# Altium footprint library RF-UNIT-BIG.PcbLib: 67 footprints (part 1 of 5)
Each footprint in its own frame and in the unit in brackets; x right, y up, seen from the top. Pads: shape width x height; smd on the part's side, far side on the other; paste and mask are expansions set on the pad; w line width, h text height; cw(c..) or ccw(c..) is an arc to the next point about the centre after c.
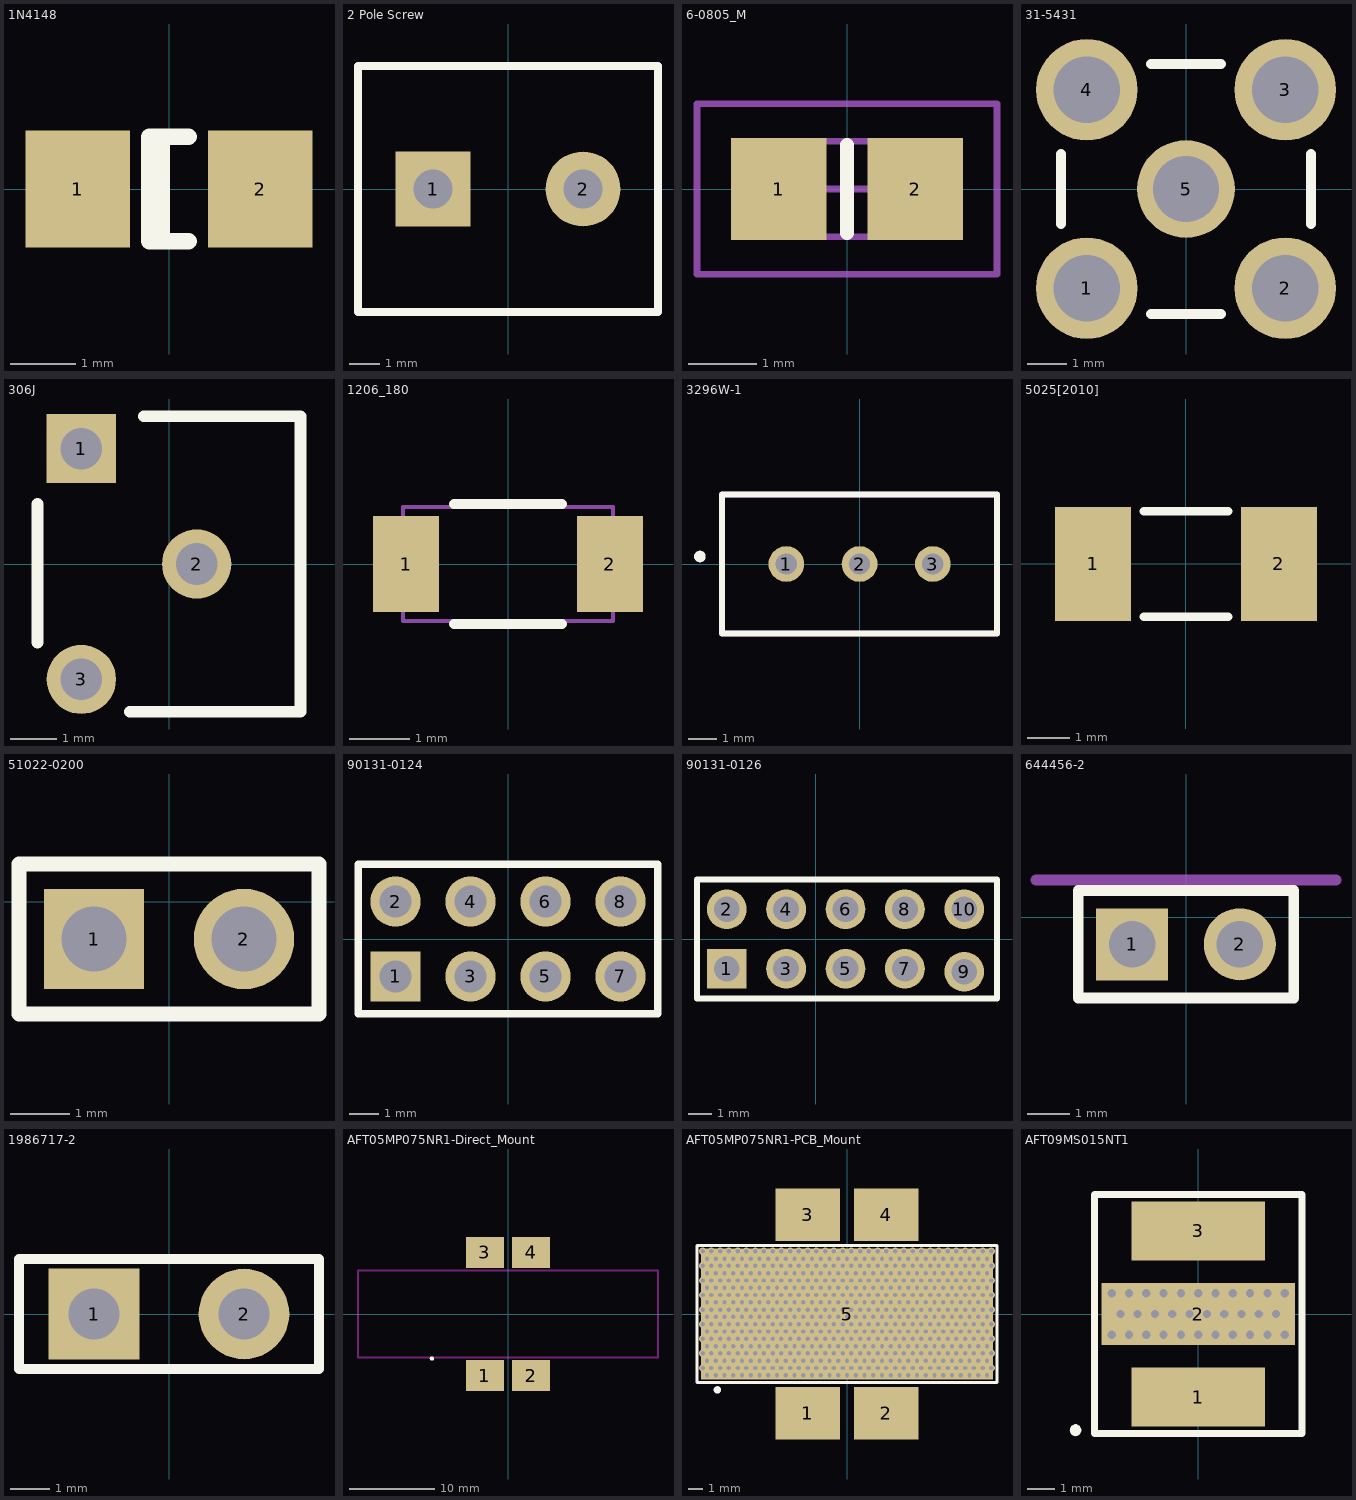
[diagram p0: the footprints below, top view; thin cyan lines are the x and y axes]

## 1N4148 [mm]
pads (2):
  rect 1.6x1.8 smd: 1(-1.4,0) 2(1.4,0)
Top Overlay:
  lines w0.254: -0.111,-0.799 -0.111,0.799 ; 0.299,-0.799 -0.299,-0.799 -0.3,0.799 0.299,0.799

## 2 Pole Screw [mm]
pads (2):
  rect 2.5x2.5 hole 1.3: 1(-2.5,0)
  round 2.5 hole 1.3: 2(2.5,0)
Top Overlay:
  lines w0.254: -5,-4.1 -5,4.1 5,4.1 5,-4.1 -5,-4.1

## 6-0805_M [mm] "Chip Resistor, Body 2.0x1.2mm, IPC Low Density"
height 0.7
pads (2):
  rect 1.4x1.5 smd: 1(-1,0) 2(1,0)
Top Overlay:
  lines w0.2: 0,-0.65 0,0.65
Mechanical 13:
  lines w0.1: -1.075,-0.7 1.075,-0.7 1.075,0.7 -1.075,0.7 -1.075,-0.7
Mechanical 15:
  lines w0.1: -0.5,0 0.5,0 ; 0,-0.5 0,0.5 ; -2.2,-1.25 2.2,-1.25 2.2,1.25 -2.2,1.25 -2.2,-1.25
3D body: height 0.7, standoff 0, extent -1.075,-0.7 1.075,0.7

## 31-5431 [mm]
pads (5):
  round 2.6 hole 1.7: 1(-2.54,-2.54) 2(2.54,-2.54) 3(2.54,2.54) 4(-2.54,2.54)
  round 2.5 hole 1.7: 5(0,0)
Top Overlay:
  lines w0.254: -3.199,-0.9 -3.199,0.9 ; -0.9,-3.199 0.9,-3.199 ; -0.9,3.199 0.9,3.199 ; 3.199,-0.9 3.199,0.9

## 306J [mm]
pads (3):
  rect 1.5x1.5 hole 0.9: 1(-1.9,2.5)
  round 1.5 hole 0.9: 2(0.6,0) 3(-1.9,-2.5)
Top Overlay:
  lines w0.254: -2.85,-1.7 -2.85,0 -2.85,1.3 ; -0.85,-3.2 2.85,-3.2 2.85,3.2 -0.55,3.2

## 1206_180 [mm]
pads (2):
  rect 1.1x1.6 smd: 1(-1.7,0) 2(1.7,0)
Top Overlay:
  lines w0.17: -0.9,-1 0.9,-1 ; -0.9,1 0.9,1
Mechanical 5:
  lines w0.07: -1.75,-0.95 -1.75,0.95 1.75,0.95 1.75,-0.95 -1.75,-0.95
  text ".Designator" at 1.185,0.635 h0.76
3D body: height 1.9, standoff 0, extent 1.301,-0.949 1.749,0.949
3D body: height 1.9, standoff 0, extent -1.299,-0.949 1.299,0.949
3D body: height 1.9, standoff 0, extent -1.749,-0.949 -1.301,0.949

## 3296W-1 [mm]
pads (3):
  round 1.24 hole 0.74: 1(-2.54,0) 2(0,0) 3(2.54,0)
Top Overlay:
  circle w0.2: c-5.536,0.26 r0.1
  lines w0.2: -4.765,-2.41 -4.765,2.41 4.765,2.41 4.765,-2.41 -4.765,-2.41
Mechanical 13:
  lines w0.2: -4.765,-2.41 -4.765,2.41 4.765,2.41 4.765,-2.41 -4.765,-2.41
3D body "3296W-1-103LF.stp": height 11.55, standoff -3.01, extent -4.775,-2.476 4.775,2.35

## 5025[2010] [mm] "Chip Resistor; Body 5.0 x 2.5 mm (LxW typ)"
height 0.71
pads (2):
  rect 1.8x2.7 smd: 1(-2.2,0) 2(2.2,0)
Top Overlay:
  lines w0.2: -1,-1.25 1,-1.25 ; -1,1.25 1,1.25

## 51022-0200 [mm]
pads (2):
  rect 1.7x1.7 hole 1.1: 1(-1.27,-0.635)
  round 1.7 hole 1.1: 2(1.27,-0.635)
Top Overlay:
  lines w0.254: -2.54,-1.905 -2.54,0.635 2.54,0.635 2.54,-1.905 -2.54,-1.905

## 90131-0124 [mm]
pads (8):
  rect 1.7x1.7 hole 1.1: 1(-3.81,-1.27)
  round 1.7 hole 1.1: 2(-3.81,1.27) 3(-1.27,-1.27) 4(-1.27,1.27) 5(1.27,-1.27) 6(1.27,1.27) 7(3.81,-1.27) 8(3.81,1.27)
Top Overlay:
  lines w0.254: -5.08,-2.54 -5.08,2.54 5.08,2.54 5.08,-2.54 -5.08,-2.54

## 90131-0126 [mm]
pads (10):
  rect 1.7x1.7 hole 1.1: 1(-3.81,-1.27)
  round 1.7 hole 1.1: 2(-3.81,1.27) 3(-1.27,-1.27) 4(-1.27,1.27) 5(1.27,-1.27) 6(1.27,1.27) 7(3.81,-1.27) 8(3.81,1.27) 9(6.35,-1.397) 10(6.35,1.27)
Top Overlay:
  lines w0.254: -5.08,-2.54 7.747,-2.54 7.747,2.54 -5.08,2.54 -5.08,-2.54

## 644456-2 [mm]
pads (2):
  rect 1.7x1.7 hole 1.1: 1(-1.27,-0.635)
  round 1.7 hole 1.1: 2(1.27,-0.635)
Top Overlay:
  lines w0.254: -2.54,-1.905 -2.54,0.635 2.54,0.635 2.54,-1.905 -2.54,-1.905
Mechanical 1:
  lines w0.254: -3.54,0.885 3.54,0.885
  text "BOARD EDGE" at -2.182,1.001 h0.42

## 1986717-2 [mm]
pads (2):
  rect 2.3x2.3 hole 1.3: 1(-1.905,0)
  round 2.3 hole 1.3: 2(1.905,0)
Top Overlay:
  lines w0.254: -3.81,-1.4 3.81,-1.4 3.81,1.4 -3.81,1.4 -3.81,-1.4

## AFT05MP075NR1-Direct_Mount [mm]
pads (4):
  rect 4.4x3.6 smd: 1(-2.69,-7.2) 2(2.69,-7.2) 3(-2.69,7.2) 4(2.69,7.2)
Top Overlay:
  circle w0.254: c-8.89,-5.207 r0.127
Keep-Out Layer:
  lines w0.2: -17.526,-5.08 17.526,-5.08 17.526,5.08 -17.526,5.08 -17.526,-5.08

## AFT05MP075NR1-PCB_Mount [mm]
pads (5):
  rect 4.4x3.6 smd: 1(-2.69,-6.8) 2(2.69,-6.8) 3(-2.69,6.8) 4(2.69,6.8)
  rect 20x9 smd: 5(0,0)
via 5.1,4.3 diameter 0.5 hole 0.3
via 5.7,4.3 diameter 0.5 hole 0.3
via 6.3,4.3 diameter 0.5 hole 0.3
via 6.9,4.3 diameter 0.5 hole 0.3
via 7.5,4.3 diameter 0.5 hole 0.3
via 8.1,4.3 diameter 0.5 hole 0.3
via 9.9,4.3 diameter 0.5 hole 0.3
via 9.3,4.3 diameter 0.5 hole 0.3
via 8.7,4.3 diameter 0.5 hole 0.3
via -2.1,4.3 diameter 0.5 hole 0.3
via -1.5,4.3 diameter 0.5 hole 0.3
via -0.9,4.3 diameter 0.5 hole 0.3
via -0.3,4.3 diameter 0.5 hole 0.3
via 0.3,4.3 diameter 0.5 hole 0.3
via 0.9,4.3 diameter 0.5 hole 0.3
via 4.5,4.3 diameter 0.5 hole 0.3
via 3.9,4.3 diameter 0.5 hole 0.3
via 3.3,4.3 diameter 0.5 hole 0.3
via 2.7,4.3 diameter 0.5 hole 0.3
via 2.1,4.3 diameter 0.5 hole 0.3
via 1.5,4.3 diameter 0.5 hole 0.3
via -5.7,4.3 diameter 0.5 hole 0.3
via -5.1,4.3 diameter 0.5 hole 0.3
via -4.5,4.3 diameter 0.5 hole 0.3
via -3.9,4.3 diameter 0.5 hole 0.3
via -3.3,4.3 diameter 0.5 hole 0.3
via -2.7,4.3 diameter 0.5 hole 0.3
via -6.3,4.3 diameter 0.5 hole 0.3
via -6.9,4.3 diameter 0.5 hole 0.3
via -7.5,4.3 diameter 0.5 hole 0.3
via -8.1,4.3 diameter 0.5 hole 0.3
via -8.7,4.3 diameter 0.5 hole 0.3
via -9.3,4.3 diameter 0.5 hole 0.3
via -9.9,4.3 diameter 0.5 hole 0.3
via 5.4,3.8 diameter 0.5 hole 0.3
via 6,3.8 diameter 0.5 hole 0.3
via 6.6,3.8 diameter 0.5 hole 0.3
via 7.2,3.8 diameter 0.5 hole 0.3
via 7.8,3.8 diameter 0.5 hole 0.3
via 8.4,3.8 diameter 0.5 hole 0.3
via 9.6,3.8 diameter 0.5 hole 0.3
via 9,3.8 diameter 0.5 hole 0.3
via -1.8,3.8 diameter 0.5 hole 0.3
via -1.2,3.8 diameter 0.5 hole 0.3
via -0.6,3.8 diameter 0.5 hole 0.3
via 0,3.8 diameter 0.5 hole 0.3
via 0.6,3.8 diameter 0.5 hole 0.3
via 1.2,3.8 diameter 0.5 hole 0.3
via 4.8,3.8 diameter 0.5 hole 0.3
via 4.2,3.8 diameter 0.5 hole 0.3
via 3.6,3.8 diameter 0.5 hole 0.3
via 3,3.8 diameter 0.5 hole 0.3
via 2.4,3.8 diameter 0.5 hole 0.3
via 1.8,3.8 diameter 0.5 hole 0.3
via -5.4,3.8 diameter 0.5 hole 0.3
via -4.8,3.8 diameter 0.5 hole 0.3
via -4.2,3.8 diameter 0.5 hole 0.3
via -3.6,3.8 diameter 0.5 hole 0.3
via -3,3.8 diameter 0.5 hole 0.3
via -2.4,3.8 diameter 0.5 hole 0.3
via -6,3.8 diameter 0.5 hole 0.3
via -6.6,3.8 diameter 0.5 hole 0.3
via -7.2,3.8 diameter 0.5 hole 0.3
via -7.8,3.8 diameter 0.5 hole 0.3
via -8.4,3.8 diameter 0.5 hole 0.3
via -9,3.8 diameter 0.5 hole 0.3
via -9.6,3.8 diameter 0.5 hole 0.3
via 5.1,3.3 diameter 0.5 hole 0.3
via 5.7,3.3 diameter 0.5 hole 0.3
via 6.3,3.3 diameter 0.5 hole 0.3
via 6.9,3.3 diameter 0.5 hole 0.3
via 7.5,3.3 diameter 0.5 hole 0.3
via 8.1,3.3 diameter 0.5 hole 0.3
via 9.9,3.3 diameter 0.5 hole 0.3
via 9.3,3.3 diameter 0.5 hole 0.3
via 8.7,3.3 diameter 0.5 hole 0.3
via -2.1,3.3 diameter 0.5 hole 0.3
via -1.5,3.3 diameter 0.5 hole 0.3
via -0.9,3.3 diameter 0.5 hole 0.3
via -0.3,3.3 diameter 0.5 hole 0.3
via 0.3,3.3 diameter 0.5 hole 0.3
via 0.9,3.3 diameter 0.5 hole 0.3
via 4.5,3.3 diameter 0.5 hole 0.3
via 3.9,3.3 diameter 0.5 hole 0.3
via 3.3,3.3 diameter 0.5 hole 0.3
via 2.7,3.3 diameter 0.5 hole 0.3
via 2.1,3.3 diameter 0.5 hole 0.3
via 1.5,3.3 diameter 0.5 hole 0.3
via -5.7,3.3 diameter 0.5 hole 0.3
via -5.1,3.3 diameter 0.5 hole 0.3
via -4.5,3.3 diameter 0.5 hole 0.3
via -3.9,3.3 diameter 0.5 hole 0.3
via -3.3,3.3 diameter 0.5 hole 0.3
via -2.7,3.3 diameter 0.5 hole 0.3
via -6.3,3.3 diameter 0.5 hole 0.3
via -6.9,3.3 diameter 0.5 hole 0.3
via -7.5,3.3 diameter 0.5 hole 0.3
via -8.1,3.3 diameter 0.5 hole 0.3
via -8.7,3.3 diameter 0.5 hole 0.3
via -9.3,3.3 diameter 0.5 hole 0.3
via -9.9,3.3 diameter 0.5 hole 0.3
via 5.4,2.8 diameter 0.5 hole 0.3
via 6,2.8 diameter 0.5 hole 0.3
via 6.6,2.8 diameter 0.5 hole 0.3
via 7.2,2.8 diameter 0.5 hole 0.3
via 7.8,2.8 diameter 0.5 hole 0.3
via 8.4,2.8 diameter 0.5 hole 0.3
via 9.6,2.8 diameter 0.5 hole 0.3
via 9,2.8 diameter 0.5 hole 0.3
via -1.8,2.8 diameter 0.5 hole 0.3
via -1.2,2.8 diameter 0.5 hole 0.3
via -0.6,2.8 diameter 0.5 hole 0.3
via 0,2.8 diameter 0.5 hole 0.3
via 0.6,2.8 diameter 0.5 hole 0.3
via 1.2,2.8 diameter 0.5 hole 0.3
via 4.8,2.8 diameter 0.5 hole 0.3
via 4.2,2.8 diameter 0.5 hole 0.3
via 3.6,2.8 diameter 0.5 hole 0.3
via 3,2.8 diameter 0.5 hole 0.3
via 2.4,2.8 diameter 0.5 hole 0.3
via 1.8,2.8 diameter 0.5 hole 0.3
via -5.4,2.8 diameter 0.5 hole 0.3
via -4.8,2.8 diameter 0.5 hole 0.3
via -4.2,2.8 diameter 0.5 hole 0.3
via -3.6,2.8 diameter 0.5 hole 0.3
via -3,2.8 diameter 0.5 hole 0.3
via -2.4,2.8 diameter 0.5 hole 0.3
via -6,2.8 diameter 0.5 hole 0.3
via -6.6,2.8 diameter 0.5 hole 0.3
via -7.2,2.8 diameter 0.5 hole 0.3
via -7.8,2.8 diameter 0.5 hole 0.3
via -8.4,2.8 diameter 0.5 hole 0.3
via -9,2.8 diameter 0.5 hole 0.3
via -9.6,2.8 diameter 0.5 hole 0.3
via 5.1,2.3 diameter 0.5 hole 0.3
via 5.7,2.3 diameter 0.5 hole 0.3
via 6.3,2.3 diameter 0.5 hole 0.3
via 6.9,2.3 diameter 0.5 hole 0.3
via 7.5,2.3 diameter 0.5 hole 0.3
via 8.1,2.3 diameter 0.5 hole 0.3
via 9.9,2.3 diameter 0.5 hole 0.3
via 9.3,2.3 diameter 0.5 hole 0.3
via 8.7,2.3 diameter 0.5 hole 0.3
via -2.1,2.3 diameter 0.5 hole 0.3
via -1.5,2.3 diameter 0.5 hole 0.3
via -0.9,2.3 diameter 0.5 hole 0.3
via -0.3,2.3 diameter 0.5 hole 0.3
via 0.3,2.3 diameter 0.5 hole 0.3
via 0.9,2.3 diameter 0.5 hole 0.3
via 4.5,2.3 diameter 0.5 hole 0.3
via 3.9,2.3 diameter 0.5 hole 0.3
via 3.3,2.3 diameter 0.5 hole 0.3
via 2.7,2.3 diameter 0.5 hole 0.3
via 2.1,2.3 diameter 0.5 hole 0.3
via 1.5,2.3 diameter 0.5 hole 0.3
via -5.7,2.3 diameter 0.5 hole 0.3
via -5.1,2.3 diameter 0.5 hole 0.3
via -4.5,2.3 diameter 0.5 hole 0.3
via -3.9,2.3 diameter 0.5 hole 0.3
via -3.3,2.3 diameter 0.5 hole 0.3
via -2.7,2.3 diameter 0.5 hole 0.3
via -6.3,2.3 diameter 0.5 hole 0.3
via -6.9,2.3 diameter 0.5 hole 0.3
via -7.5,2.3 diameter 0.5 hole 0.3
via -8.1,2.3 diameter 0.5 hole 0.3
via -8.7,2.3 diameter 0.5 hole 0.3
via -9.3,2.3 diameter 0.5 hole 0.3
via -9.9,2.3 diameter 0.5 hole 0.3
via 5.4,1.8 diameter 0.5 hole 0.3
via 6,1.8 diameter 0.5 hole 0.3
via 6.6,1.8 diameter 0.5 hole 0.3
via 7.2,1.8 diameter 0.5 hole 0.3
via 7.8,1.8 diameter 0.5 hole 0.3
via 8.4,1.8 diameter 0.5 hole 0.3
via 9.6,1.8 diameter 0.5 hole 0.3
via 9,1.8 diameter 0.5 hole 0.3
via -1.8,1.8 diameter 0.5 hole 0.3
via -1.2,1.8 diameter 0.5 hole 0.3
via -0.6,1.8 diameter 0.5 hole 0.3
via 0,1.8 diameter 0.5 hole 0.3
via 0.6,1.8 diameter 0.5 hole 0.3
via 1.2,1.8 diameter 0.5 hole 0.3
via 4.8,1.8 diameter 0.5 hole 0.3
via 4.2,1.8 diameter 0.5 hole 0.3
via 3.6,1.8 diameter 0.5 hole 0.3
via 3,1.8 diameter 0.5 hole 0.3
via 2.4,1.8 diameter 0.5 hole 0.3
via 1.8,1.8 diameter 0.5 hole 0.3
via -5.4,1.8 diameter 0.5 hole 0.3
via -4.8,1.8 diameter 0.5 hole 0.3
via -4.2,1.8 diameter 0.5 hole 0.3
via -3.6,1.8 diameter 0.5 hole 0.3
via -3,1.8 diameter 0.5 hole 0.3
via -2.4,1.8 diameter 0.5 hole 0.3
via -6,1.8 diameter 0.5 hole 0.3
via -6.6,1.8 diameter 0.5 hole 0.3
via -7.2,1.8 diameter 0.5 hole 0.3
via -7.8,1.8 diameter 0.5 hole 0.3
via -8.4,1.8 diameter 0.5 hole 0.3
via -9,1.8 diameter 0.5 hole 0.3
via -9.6,1.8 diameter 0.5 hole 0.3
via 5.1,1.3 diameter 0.5 hole 0.3
via 5.7,1.3 diameter 0.5 hole 0.3
via 6.3,1.3 diameter 0.5 hole 0.3
via 6.9,1.3 diameter 0.5 hole 0.3
via 7.5,1.3 diameter 0.5 hole 0.3
via 8.1,1.3 diameter 0.5 hole 0.3
via 9.9,1.3 diameter 0.5 hole 0.3
via 9.3,1.3 diameter 0.5 hole 0.3
via 8.7,1.3 diameter 0.5 hole 0.3
via -2.1,1.3 diameter 0.5 hole 0.3
via -1.5,1.3 diameter 0.5 hole 0.3
via -0.9,1.3 diameter 0.5 hole 0.3
via -0.3,1.3 diameter 0.5 hole 0.3
via 0.3,1.3 diameter 0.5 hole 0.3
via 0.9,1.3 diameter 0.5 hole 0.3
via 4.5,1.3 diameter 0.5 hole 0.3
via 3.9,1.3 diameter 0.5 hole 0.3
via 3.3,1.3 diameter 0.5 hole 0.3
via 2.7,1.3 diameter 0.5 hole 0.3
via 2.1,1.3 diameter 0.5 hole 0.3
via 1.5,1.3 diameter 0.5 hole 0.3
via -5.7,1.3 diameter 0.5 hole 0.3
via -5.1,1.3 diameter 0.5 hole 0.3
via -4.5,1.3 diameter 0.5 hole 0.3
via -3.9,1.3 diameter 0.5 hole 0.3
via -3.3,1.3 diameter 0.5 hole 0.3
via -2.7,1.3 diameter 0.5 hole 0.3
via -6.3,1.3 diameter 0.5 hole 0.3
via -6.9,1.3 diameter 0.5 hole 0.3
via -7.5,1.3 diameter 0.5 hole 0.3
via -8.1,1.3 diameter 0.5 hole 0.3
via -8.7,1.3 diameter 0.5 hole 0.3
via -9.3,1.3 diameter 0.5 hole 0.3
via -9.9,1.3 diameter 0.5 hole 0.3
via 5.4,0.8 diameter 0.5 hole 0.3
via 6,0.8 diameter 0.5 hole 0.3
via 6.6,0.8 diameter 0.5 hole 0.3
via 7.2,0.8 diameter 0.5 hole 0.3
via 7.8,0.8 diameter 0.5 hole 0.3
via 8.4,0.8 diameter 0.5 hole 0.3
via 9.6,0.8 diameter 0.5 hole 0.3
via 9,0.8 diameter 0.5 hole 0.3
via -1.8,0.8 diameter 0.5 hole 0.3
via -1.2,0.8 diameter 0.5 hole 0.3
via -0.6,0.8 diameter 0.5 hole 0.3
via 0,0.8 diameter 0.5 hole 0.3
via 0.6,0.8 diameter 0.5 hole 0.3
via 1.2,0.8 diameter 0.5 hole 0.3
via 4.8,0.8 diameter 0.5 hole 0.3
via 4.2,0.8 diameter 0.5 hole 0.3
via 3.6,0.8 diameter 0.5 hole 0.3
via 3,0.8 diameter 0.5 hole 0.3
via 2.4,0.8 diameter 0.5 hole 0.3
via 1.8,0.8 diameter 0.5 hole 0.3
via -5.4,0.8 diameter 0.5 hole 0.3
via -4.8,0.8 diameter 0.5 hole 0.3
via -4.2,0.8 diameter 0.5 hole 0.3
via -3.6,0.8 diameter 0.5 hole 0.3
via -3,0.8 diameter 0.5 hole 0.3
via -2.4,0.8 diameter 0.5 hole 0.3
via -6,0.8 diameter 0.5 hole 0.3
via -6.6,0.8 diameter 0.5 hole 0.3
via -7.2,0.8 diameter 0.5 hole 0.3
via -7.8,0.8 diameter 0.5 hole 0.3
via -8.4,0.8 diameter 0.5 hole 0.3
via -9,0.8 diameter 0.5 hole 0.3
via -9.6,0.8 diameter 0.5 hole 0.3
via 5.1,0.3 diameter 0.5 hole 0.3
via 5.7,0.3 diameter 0.5 hole 0.3
via 6.3,0.3 diameter 0.5 hole 0.3
via 6.9,0.3 diameter 0.5 hole 0.3
via 7.5,0.3 diameter 0.5 hole 0.3
via 8.1,0.3 diameter 0.5 hole 0.3
via 9.9,0.3 diameter 0.5 hole 0.3
via 9.3,0.3 diameter 0.5 hole 0.3
via 8.7,0.3 diameter 0.5 hole 0.3
via -2.1,0.3 diameter 0.5 hole 0.3
via -1.5,0.3 diameter 0.5 hole 0.3
via -0.9,0.3 diameter 0.5 hole 0.3
via -0.3,0.3 diameter 0.5 hole 0.3
via 0.3,0.3 diameter 0.5 hole 0.3
via 0.9,0.3 diameter 0.5 hole 0.3
via 4.5,0.3 diameter 0.5 hole 0.3
via 3.9,0.3 diameter 0.5 hole 0.3
via 3.3,0.3 diameter 0.5 hole 0.3
via 2.7,0.3 diameter 0.5 hole 0.3
via 2.1,0.3 diameter 0.5 hole 0.3
via 1.5,0.3 diameter 0.5 hole 0.3
via -5.7,0.3 diameter 0.5 hole 0.3
via -5.1,0.3 diameter 0.5 hole 0.3
via -4.5,0.3 diameter 0.5 hole 0.3
via -3.9,0.3 diameter 0.5 hole 0.3
via -3.3,0.3 diameter 0.5 hole 0.3
via -2.7,0.3 diameter 0.5 hole 0.3
via -6.3,0.3 diameter 0.5 hole 0.3
via -6.9,0.3 diameter 0.5 hole 0.3
via -7.5,0.3 diameter 0.5 hole 0.3
via -8.1,0.3 diameter 0.5 hole 0.3
via -8.7,0.3 diameter 0.5 hole 0.3
via -9.3,0.3 diameter 0.5 hole 0.3
via -9.9,0.3 diameter 0.5 hole 0.3
via 5.4,-0.2 diameter 0.5 hole 0.3
via 6,-0.2 diameter 0.5 hole 0.3
via 6.6,-0.2 diameter 0.5 hole 0.3
via 7.2,-0.2 diameter 0.5 hole 0.3
via 7.8,-0.2 diameter 0.5 hole 0.3
via 8.4,-0.2 diameter 0.5 hole 0.3
via 9.6,-0.2 diameter 0.5 hole 0.3
via 9,-0.2 diameter 0.5 hole 0.3
via -1.8,-0.2 diameter 0.5 hole 0.3
via -1.2,-0.2 diameter 0.5 hole 0.3
via -0.6,-0.2 diameter 0.5 hole 0.3
via 0,-0.2 diameter 0.5 hole 0.3
via 0.6,-0.2 diameter 0.5 hole 0.3
via 1.2,-0.2 diameter 0.5 hole 0.3
via 4.8,-0.2 diameter 0.5 hole 0.3
via 4.2,-0.2 diameter 0.5 hole 0.3
via 3.6,-0.2 diameter 0.5 hole 0.3
via 3,-0.2 diameter 0.5 hole 0.3
via 2.4,-0.2 diameter 0.5 hole 0.3
via 1.8,-0.2 diameter 0.5 hole 0.3
via -5.4,-0.2 diameter 0.5 hole 0.3
via -4.8,-0.2 diameter 0.5 hole 0.3
via -4.2,-0.2 diameter 0.5 hole 0.3
via -3.6,-0.2 diameter 0.5 hole 0.3
via -3,-0.2 diameter 0.5 hole 0.3
via -2.4,-0.2 diameter 0.5 hole 0.3
via -6,-0.2 diameter 0.5 hole 0.3
via -6.6,-0.2 diameter 0.5 hole 0.3
via -7.2,-0.2 diameter 0.5 hole 0.3
via -7.8,-0.2 diameter 0.5 hole 0.3
via -8.4,-0.2 diameter 0.5 hole 0.3
via -9,-0.2 diameter 0.5 hole 0.3
via -9.6,-0.2 diameter 0.5 hole 0.3
via 5.1,-0.7 diameter 0.5 hole 0.3
via 5.7,-0.7 diameter 0.5 hole 0.3
via 6.3,-0.7 diameter 0.5 hole 0.3
via 6.9,-0.7 diameter 0.5 hole 0.3
via 7.5,-0.7 diameter 0.5 hole 0.3
via 8.1,-0.7 diameter 0.5 hole 0.3
via 9.9,-0.7 diameter 0.5 hole 0.3
via 9.3,-0.7 diameter 0.5 hole 0.3
via 8.7,-0.7 diameter 0.5 hole 0.3
via -2.1,-0.7 diameter 0.5 hole 0.3
via -1.5,-0.7 diameter 0.5 hole 0.3
via -0.9,-0.7 diameter 0.5 hole 0.3
via -0.3,-0.7 diameter 0.5 hole 0.3
via 0.3,-0.7 diameter 0.5 hole 0.3
via 0.9,-0.7 diameter 0.5 hole 0.3
via 4.5,-0.7 diameter 0.5 hole 0.3
via 3.9,-0.7 diameter 0.5 hole 0.3
via 3.3,-0.7 diameter 0.5 hole 0.3
via 2.7,-0.7 diameter 0.5 hole 0.3
via 2.1,-0.7 diameter 0.5 hole 0.3
via 1.5,-0.7 diameter 0.5 hole 0.3
via -5.7,-0.7 diameter 0.5 hole 0.3
via -5.1,-0.7 diameter 0.5 hole 0.3
via -4.5,-0.7 diameter 0.5 hole 0.3
via -3.9,-0.7 diameter 0.5 hole 0.3
via -3.3,-0.7 diameter 0.5 hole 0.3
via -2.7,-0.7 diameter 0.5 hole 0.3
via -6.3,-0.7 diameter 0.5 hole 0.3
via -6.9,-0.7 diameter 0.5 hole 0.3
via -7.5,-0.7 diameter 0.5 hole 0.3
via -8.1,-0.7 diameter 0.5 hole 0.3
via -8.7,-0.7 diameter 0.5 hole 0.3
via -9.3,-0.7 diameter 0.5 hole 0.3
via -9.9,-0.7 diameter 0.5 hole 0.3
via 5.4,-1.2 diameter 0.5 hole 0.3
via 6,-1.2 diameter 0.5 hole 0.3
via 6.6,-1.2 diameter 0.5 hole 0.3
via 7.2,-1.2 diameter 0.5 hole 0.3
via 7.8,-1.2 diameter 0.5 hole 0.3
via 8.4,-1.2 diameter 0.5 hole 0.3
via 9.6,-1.2 diameter 0.5 hole 0.3
via 9,-1.2 diameter 0.5 hole 0.3
via -1.8,-1.2 diameter 0.5 hole 0.3
via -1.2,-1.2 diameter 0.5 hole 0.3
via -0.6,-1.2 diameter 0.5 hole 0.3
via 0,-1.2 diameter 0.5 hole 0.3
via 0.6,-1.2 diameter 0.5 hole 0.3
via 1.2,-1.2 diameter 0.5 hole 0.3
via 4.8,-1.2 diameter 0.5 hole 0.3
via 4.2,-1.2 diameter 0.5 hole 0.3
via 3.6,-1.2 diameter 0.5 hole 0.3
via 3,-1.2 diameter 0.5 hole 0.3
via 2.4,-1.2 diameter 0.5 hole 0.3
via 1.8,-1.2 diameter 0.5 hole 0.3
via -5.4,-1.2 diameter 0.5 hole 0.3
via -4.8,-1.2 diameter 0.5 hole 0.3
via -4.2,-1.2 diameter 0.5 hole 0.3
via -3.6,-1.2 diameter 0.5 hole 0.3
via -3,-1.2 diameter 0.5 hole 0.3
via -2.4,-1.2 diameter 0.5 hole 0.3
via -6,-1.2 diameter 0.5 hole 0.3
via -6.6,-1.2 diameter 0.5 hole 0.3
via -7.2,-1.2 diameter 0.5 hole 0.3
via -7.8,-1.2 diameter 0.5 hole 0.3
via -8.4,-1.2 diameter 0.5 hole 0.3
via -9,-1.2 diameter 0.5 hole 0.3
via -9.6,-1.2 diameter 0.5 hole 0.3
via 5.1,-1.7 diameter 0.5 hole 0.3
via 5.7,-1.7 diameter 0.5 hole 0.3
via 6.3,-1.7 diameter 0.5 hole 0.3
via 6.9,-1.7 diameter 0.5 hole 0.3
via 7.5,-1.7 diameter 0.5 hole 0.3
via 8.1,-1.7 diameter 0.5 hole 0.3
via 9.9,-1.7 diameter 0.5 hole 0.3
via 9.3,-1.7 diameter 0.5 hole 0.3
via 8.7,-1.7 diameter 0.5 hole 0.3
via -2.1,-1.7 diameter 0.5 hole 0.3
via -1.5,-1.7 diameter 0.5 hole 0.3
via -0.9,-1.7 diameter 0.5 hole 0.3
via -0.3,-1.7 diameter 0.5 hole 0.3
via 0.3,-1.7 diameter 0.5 hole 0.3
via 0.9,-1.7 diameter 0.5 hole 0.3
via 4.5,-1.7 diameter 0.5 hole 0.3
via 3.9,-1.7 diameter 0.5 hole 0.3
via 3.3,-1.7 diameter 0.5 hole 0.3
via 2.7,-1.7 diameter 0.5 hole 0.3
via 2.1,-1.7 diameter 0.5 hole 0.3
via 1.5,-1.7 diameter 0.5 hole 0.3
via -5.7,-1.7 diameter 0.5 hole 0.3
via -5.1,-1.7 diameter 0.5 hole 0.3
via -4.5,-1.7 diameter 0.5 hole 0.3
via -3.9,-1.7 diameter 0.5 hole 0.3
via -3.3,-1.7 diameter 0.5 hole 0.3
via -2.7,-1.7 diameter 0.5 hole 0.3
via -6.3,-1.7 diameter 0.5 hole 0.3
via -6.9,-1.7 diameter 0.5 hole 0.3
via -7.5,-1.7 diameter 0.5 hole 0.3
via -8.1,-1.7 diameter 0.5 hole 0.3
via -8.7,-1.7 diameter 0.5 hole 0.3
via -9.3,-1.7 diameter 0.5 hole 0.3
via -9.9,-1.7 diameter 0.5 hole 0.3
via 5.4,-2.2 diameter 0.5 hole 0.3
via 6,-2.2 diameter 0.5 hole 0.3
via 6.6,-2.2 diameter 0.5 hole 0.3
via 7.2,-2.2 diameter 0.5 hole 0.3
via 7.8,-2.2 diameter 0.5 hole 0.3
via 8.4,-2.2 diameter 0.5 hole 0.3
via 9.6,-2.2 diameter 0.5 hole 0.3
via 9,-2.2 diameter 0.5 hole 0.3
via -1.8,-2.2 diameter 0.5 hole 0.3
via -1.2,-2.2 diameter 0.5 hole 0.3
via -0.6,-2.2 diameter 0.5 hole 0.3
via 0,-2.2 diameter 0.5 hole 0.3
via 0.6,-2.2 diameter 0.5 hole 0.3
via 1.2,-2.2 diameter 0.5 hole 0.3
via 4.8,-2.2 diameter 0.5 hole 0.3
via 4.2,-2.2 diameter 0.5 hole 0.3
via 3.6,-2.2 diameter 0.5 hole 0.3
via 3,-2.2 diameter 0.5 hole 0.3
via 2.4,-2.2 diameter 0.5 hole 0.3
via 1.8,-2.2 diameter 0.5 hole 0.3
via -5.4,-2.2 diameter 0.5 hole 0.3
via -4.8,-2.2 diameter 0.5 hole 0.3
via -4.2,-2.2 diameter 0.5 hole 0.3
via -3.6,-2.2 diameter 0.5 hole 0.3
via -3,-2.2 diameter 0.5 hole 0.3
via -2.4,-2.2 diameter 0.5 hole 0.3
via -6,-2.2 diameter 0.5 hole 0.3
via -6.6,-2.2 diameter 0.5 hole 0.3
via -7.2,-2.2 diameter 0.5 hole 0.3
via -7.8,-2.2 diameter 0.5 hole 0.3
via -8.4,-2.2 diameter 0.5 hole 0.3
via -9,-2.2 diameter 0.5 hole 0.3
via -9.6,-2.2 diameter 0.5 hole 0.3
via 5.1,-2.7 diameter 0.5 hole 0.3
via 5.7,-2.7 diameter 0.5 hole 0.3
via 6.3,-2.7 diameter 0.5 hole 0.3
via 6.9,-2.7 diameter 0.5 hole 0.3
via 7.5,-2.7 diameter 0.5 hole 0.3
via 8.1,-2.7 diameter 0.5 hole 0.3
via 9.9,-2.7 diameter 0.5 hole 0.3
via 9.3,-2.7 diameter 0.5 hole 0.3
via 8.7,-2.7 diameter 0.5 hole 0.3
via -2.1,-2.7 diameter 0.5 hole 0.3
via -1.5,-2.7 diameter 0.5 hole 0.3
via -0.9,-2.7 diameter 0.5 hole 0.3
via -0.3,-2.7 diameter 0.5 hole 0.3
via 0.3,-2.7 diameter 0.5 hole 0.3
via 0.9,-2.7 diameter 0.5 hole 0.3
via 4.5,-2.7 diameter 0.5 hole 0.3
via 3.9,-2.7 diameter 0.5 hole 0.3
via 3.3,-2.7 diameter 0.5 hole 0.3
via 2.7,-2.7 diameter 0.5 hole 0.3
via 2.1,-2.7 diameter 0.5 hole 0.3
via 1.5,-2.7 diameter 0.5 hole 0.3
via -5.7,-2.7 diameter 0.5 hole 0.3
via -5.1,-2.7 diameter 0.5 hole 0.3
via -4.5,-2.7 diameter 0.5 hole 0.3
via -3.9,-2.7 diameter 0.5 hole 0.3
via -3.3,-2.7 diameter 0.5 hole 0.3
via -2.7,-2.7 diameter 0.5 hole 0.3
via -6.3,-2.7 diameter 0.5 hole 0.3
via -6.9,-2.7 diameter 0.5 hole 0.3
via -7.5,-2.7 diameter 0.5 hole 0.3
via -8.1,-2.7 diameter 0.5 hole 0.3
via -8.7,-2.7 diameter 0.5 hole 0.3
via -9.3,-2.7 diameter 0.5 hole 0.3
via -9.9,-2.7 diameter 0.5 hole 0.3
via 5.4,-3.2 diameter 0.5 hole 0.3
via 6,-3.2 diameter 0.5 hole 0.3
via 6.6,-3.2 diameter 0.5 hole 0.3
via 7.2,-3.2 diameter 0.5 hole 0.3
via 7.8,-3.2 diameter 0.5 hole 0.3
via 8.4,-3.2 diameter 0.5 hole 0.3
via 9.6,-3.2 diameter 0.5 hole 0.3
via 9,-3.2 diameter 0.5 hole 0.3
via -1.8,-3.2 diameter 0.5 hole 0.3
via -1.2,-3.2 diameter 0.5 hole 0.3
via -0.6,-3.2 diameter 0.5 hole 0.3
via 0,-3.2 diameter 0.5 hole 0.3
via 0.6,-3.2 diameter 0.5 hole 0.3
via 1.2,-3.2 diameter 0.5 hole 0.3
via 4.8,-3.2 diameter 0.5 hole 0.3
via 4.2,-3.2 diameter 0.5 hole 0.3
via 3.6,-3.2 diameter 0.5 hole 0.3
via 3,-3.2 diameter 0.5 hole 0.3
via 2.4,-3.2 diameter 0.5 hole 0.3
via 1.8,-3.2 diameter 0.5 hole 0.3
via -5.4,-3.2 diameter 0.5 hole 0.3
via -4.8,-3.2 diameter 0.5 hole 0.3
via -4.2,-3.2 diameter 0.5 hole 0.3
via -3.6,-3.2 diameter 0.5 hole 0.3
via -3,-3.2 diameter 0.5 hole 0.3
via -2.4,-3.2 diameter 0.5 hole 0.3
via -6,-3.2 diameter 0.5 hole 0.3
via -6.6,-3.2 diameter 0.5 hole 0.3
via -7.2,-3.2 diameter 0.5 hole 0.3
via -7.8,-3.2 diameter 0.5 hole 0.3
via -8.4,-3.2 diameter 0.5 hole 0.3
via -9,-3.2 diameter 0.5 hole 0.3
via -9.6,-3.2 diameter 0.5 hole 0.3
via 5.1,-3.7 diameter 0.5 hole 0.3
via 5.7,-3.7 diameter 0.5 hole 0.3
via 6.3,-3.7 diameter 0.5 hole 0.3
via 6.9,-3.7 diameter 0.5 hole 0.3
via 7.5,-3.7 diameter 0.5 hole 0.3
via 8.1,-3.7 diameter 0.5 hole 0.3
via 9.9,-3.7 diameter 0.5 hole 0.3
via 9.3,-3.7 diameter 0.5 hole 0.3
via 8.7,-3.7 diameter 0.5 hole 0.3
via -2.1,-3.7 diameter 0.5 hole 0.3
via -1.5,-3.7 diameter 0.5 hole 0.3
via -0.9,-3.7 diameter 0.5 hole 0.3
via -0.3,-3.7 diameter 0.5 hole 0.3
via 0.3,-3.7 diameter 0.5 hole 0.3
via 0.9,-3.7 diameter 0.5 hole 0.3
via 4.5,-3.7 diameter 0.5 hole 0.3
via 3.9,-3.7 diameter 0.5 hole 0.3
via 3.3,-3.7 diameter 0.5 hole 0.3
via 2.7,-3.7 diameter 0.5 hole 0.3
via 2.1,-3.7 diameter 0.5 hole 0.3
via 1.5,-3.7 diameter 0.5 hole 0.3
via -5.7,-3.7 diameter 0.5 hole 0.3
via -5.1,-3.7 diameter 0.5 hole 0.3
via -4.5,-3.7 diameter 0.5 hole 0.3
via -3.9,-3.7 diameter 0.5 hole 0.3
via -3.3,-3.7 diameter 0.5 hole 0.3
via -2.7,-3.7 diameter 0.5 hole 0.3
via -6.3,-3.7 diameter 0.5 hole 0.3
via -6.9,-3.7 diameter 0.5 hole 0.3
via -7.5,-3.7 diameter 0.5 hole 0.3
via -8.1,-3.7 diameter 0.5 hole 0.3
via -8.7,-3.7 diameter 0.5 hole 0.3
via -9.3,-3.7 diameter 0.5 hole 0.3
via -9.9,-3.7 diameter 0.5 hole 0.3
via 5.4,-4.2 diameter 0.5 hole 0.3
via 6,-4.2 diameter 0.5 hole 0.3
via 6.6,-4.2 diameter 0.5 hole 0.3
via 7.2,-4.2 diameter 0.5 hole 0.3
via 7.8,-4.2 diameter 0.5 hole 0.3
via 8.4,-4.2 diameter 0.5 hole 0.3
via 9.6,-4.2 diameter 0.5 hole 0.3
via 9,-4.2 diameter 0.5 hole 0.3
via -1.8,-4.2 diameter 0.5 hole 0.3
via -1.2,-4.2 diameter 0.5 hole 0.3
via -0.6,-4.2 diameter 0.5 hole 0.3
via 0,-4.2 diameter 0.5 hole 0.3
via 0.6,-4.2 diameter 0.5 hole 0.3
via 1.2,-4.2 diameter 0.5 hole 0.3
via 4.8,-4.2 diameter 0.5 hole 0.3
via 4.2,-4.2 diameter 0.5 hole 0.3
via 3.6,-4.2 diameter 0.5 hole 0.3
via 3,-4.2 diameter 0.5 hole 0.3
via 2.4,-4.2 diameter 0.5 hole 0.3
via 1.8,-4.2 diameter 0.5 hole 0.3
via -5.4,-4.2 diameter 0.5 hole 0.3
via -4.8,-4.2 diameter 0.5 hole 0.3
via -4.2,-4.2 diameter 0.5 hole 0.3
via -3.6,-4.2 diameter 0.5 hole 0.3
via -3,-4.2 diameter 0.5 hole 0.3
via -2.4,-4.2 diameter 0.5 hole 0.3
via -6,-4.2 diameter 0.5 hole 0.3
via -6.6,-4.2 diameter 0.5 hole 0.3
via -7.2,-4.2 diameter 0.5 hole 0.3
via -7.8,-4.2 diameter 0.5 hole 0.3
via -8.4,-4.2 diameter 0.5 hole 0.3
via -9,-4.2 diameter 0.5 hole 0.3
via -9.6,-4.2 diameter 0.5 hole 0.3
Top Overlay:
  circle w0.254: c-8.89,-5.207 r0.127
  lines w0.2: -10.287,-4.699 -10.287,4.699 10.287,4.699 10.287,-4.699 -10.287,-4.699

## AFT09MS015NT1 [mm]
pads (3):
  rect 4.91x2.16 smd: 1(0,-3.05) 3(0,3.05)
  rect 7.11x2.26 smd: 2(0,0)
via -2.857,0 diameter 0.5 hole 0.3
via -2.222,0 diameter 0.5 hole 0.3
via -1.587,0 diameter 0.5 hole 0.3
via -0.953,0 diameter 0.5 hole 0.3
via -0.318,0 diameter 0.5 hole 0.3
via 0.318,0 diameter 0.5 hole 0.3
via 0.953,0 diameter 0.5 hole 0.3
via 1.587,0 diameter 0.5 hole 0.3
via 2.222,0 diameter 0.5 hole 0.3
via 2.857,0 diameter 0.5 hole 0.3
via -3.175,-0.762 diameter 0.5 hole 0.3
via -2.54,-0.762 diameter 0.5 hole 0.3
via -1.905,-0.762 diameter 0.5 hole 0.3
via -1.27,-0.762 diameter 0.5 hole 0.3
via -0.635,-0.762 diameter 0.5 hole 0.3
via 0,-0.762 diameter 0.5 hole 0.3
via 0.635,-0.762 diameter 0.5 hole 0.3
via 1.27,-0.762 diameter 0.5 hole 0.3
via 1.905,-0.762 diameter 0.5 hole 0.3
via 2.54,-0.762 diameter 0.5 hole 0.3
via 3.175,-0.762 diameter 0.5 hole 0.3
via 3.175,0.762 diameter 0.5 hole 0.3
via 2.54,0.762 diameter 0.5 hole 0.3
via 1.905,0.762 diameter 0.5 hole 0.3
via 1.27,0.762 diameter 0.5 hole 0.3
via 0.635,0.762 diameter 0.5 hole 0.3
via 0,0.762 diameter 0.5 hole 0.3
via -0.635,0.762 diameter 0.5 hole 0.3
via -1.27,0.762 diameter 0.5 hole 0.3
via -1.905,0.762 diameter 0.5 hole 0.3
via -2.54,0.762 diameter 0.5 hole 0.3
via -3.175,0.762 diameter 0.5 hole 0.3
Top Overlay:
  region: -4.297,-4.263 -4.3,-4.225 -4.309,-4.189 -4.324,-4.155 -4.345,-4.124 -4.37,-4.098 -4.399,-4.076 -4.432,-4.06 -4.466,-4.051 -4.502,-4.048 -4.537,-4.051 -4.572,-4.06 -4.604,-4.076 -4.634,-4.098 -4.659,-4.124 -4.679,-4.155 -4.694,-4.189 -4.704,-4.225 -4.707,-4.263 -4.704,-4.3 -4.694,-4.336 -4.679,-4.37 -4.659,-4.401 -4.634,-4.427 -4.604,-4.449 -4.572,-4.465 -4.537,-4.474 -4.502,-4.478 -4.466,-4.474 -4.432,-4.465 -4.399,-4.449 -4.37,-4.427 -4.345,-4.401 -4.324,-4.37 -4.309,-4.336 -4.3,-4.3
  lines w0.254: -3.81,-4.381 3.81,-4.381 3.81,4.381 -3.81,4.381 -3.81,-4.381